# Altium schematic symbol library Resistor.SchLib: 3 symbols
Pins are listed as number, name and electrical type; pins without a type are passive.

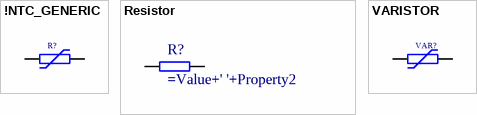
[diagram p0: symbols !NTC_GENERIC to VARISTOR]

## !NTC_GENERIC
designator R?
pins: 1, 2
1 alternate drawing of the same symbol

## Resistor
designator R?
pins: 1, 2
1 alternate drawing of the same symbol

## VARISTOR
designator VAR?
pins: 1, 2
1 alternate drawing of the same symbol